# Altium schematic symbol library 0436500400.SchLib: 1 symbol
Pins are listed as number, name and electrical type; pins without a type are passive.

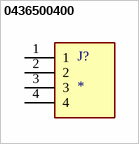
[diagram p0: symbol 0436500400]

## 0436500400
designator J?
Micro-fit 3.0 Connector, 4 Circuit Single Row, Right Angle Throughhole PCB, Snap-In Peg; MP: 0436500400; MF: Molex; SnapEDA_Link: https://www.snapeda.com/parts/0436500400/Molex/view-part/1776823/?ref=snap; Price: None; Package: None; Availability: Unavailable; Value: *; ComponentLink1Description: Snapeda; ComponentLink1URL: https://www.snapeda.com/parts/0436500400/Molex/view-part/1776823/?ref=eda
footprint MOLEX_0436500400
pins: 1, 2, 3, 4